# EAGLE library part RXM-GPS-RM-T (library chips)
The RM Series GPS receiver module is a self-contained high-performance Global Positioning System receiver
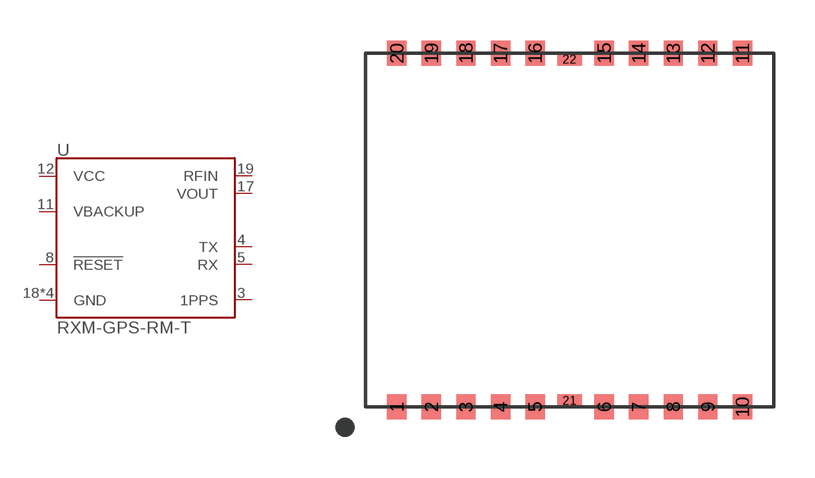
[diagram p38: symbol with the pads of RXM-GPS-RM-T; footprint RXM-GPS-RM-T]

Designator prefix U

## RXM-GPS-RM-T (DIGIKEY: RXM-GPS-RM-TCT-ND)  [RXM-GPS-RM-T]
3  1PPS
4  TX
5  RX
8  !RESET
11  VBACKUP
12  VCC
17  VOUT
18  GND
19  RFIN
20  GND
21  GND
22  GND

## Footprint RXM-GPS-RM-T (pad centres in mm)
smd 0.711 x 0.914: 1 -6.35,-6.502; 2 -5.08,-6.502; 3 -3.81,-6.502; 4 -2.54,-6.502; 5 -1.27,-6.502; 6 1.27,-6.502; 7 2.54,-6.502; 8 3.81,-6.502; 9 5.08,-6.502; 10 6.35,-6.502; 11 6.35,6.502; 12 5.08,6.502; 13 3.81,6.502; 14 2.54,6.502; 15 1.27,6.502; 16 -1.27,6.502; 17 -2.54,6.502; 18 -3.81,6.502; 19 -5.08,6.502; 20 -6.35,6.502
smd 0.914 x 0.457: 21 0,-6.274; 22 0,6.274